# EAGLE library part TLC5947 (library vibhud)
TI TLC5947 24-channel 12-bit constant current PWM driver The TLC5947 is a 24-channel, constant-current sink LED driver. Each channel is individually adjustable with 4096 pulse-width modulated (PWM) steps. PWM control is repeated automatically with the programmed grayscale (GS) data. GS data are written via a serial interface port. The current value of all 24 channels is set by a single external resistor. The TLC5947 has a thermal shutdown (TSD) function that turns off all output drivers during an over-temperature condition. All of the output drivers automatically restart when the temperature returns to normal conditions. SparkFun Products: [PRODUCT 1] <[PRODUCT1LINK]>
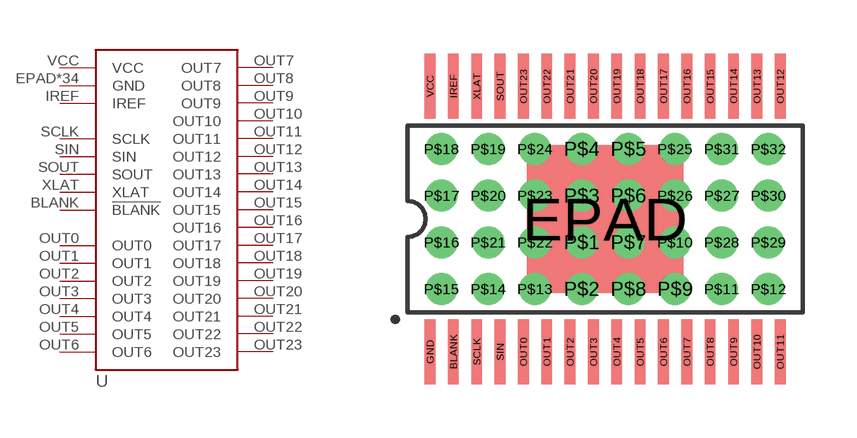
[diagram p17: symbol with the pads of HTSSOP32; footprint HTSSOP32]

Designator prefix -

## TLC5947 (PROD_ID: IC-13817)  [HTSSOP32]
BLANK  !BLANK
EPAD  GND  pwr
GND  GND  pwr
IREF  IREF
OUT0  OUT0  out
OUT1  OUT1  out
OUT2  OUT2  out
OUT3  OUT3  out
OUT4  OUT4  out
OUT5  OUT5  out
OUT6  OUT6  out
OUT7  OUT7  out
OUT8  OUT8  out
OUT9  OUT9  out
OUT10  OUT10  out
OUT11  OUT11  out
OUT12  OUT12  out
OUT13  OUT13  out
OUT14  OUT14  out
OUT15  OUT15  out
OUT16  OUT16  out
OUT17  OUT17  out
OUT18  OUT18  out
OUT19  OUT19  out
OUT20  OUT20  out
OUT21  OUT21  out
OUT22  OUT22  out
OUT23  OUT23  out
P$1  GND  pwr
P$2  GND  pwr
P$3  GND  pwr
P$4  GND  pwr
P$5  GND  pwr
P$6  GND  pwr
P$7  GND  pwr
P$8  GND  pwr
P$9  GND  pwr
P$10  GND  pwr
P$11  GND  pwr
P$12  GND  pwr
P$13  GND  pwr
P$14  GND  pwr
P$15  GND  pwr
P$16  GND  pwr
P$17  GND  pwr
P$18  GND  pwr
P$19  GND  pwr
P$20  GND  pwr
P$21  GND  pwr
P$22  GND  pwr
P$23  GND  pwr
P$24  GND  pwr
P$25  GND  pwr
P$26  GND  pwr
P$27  GND  pwr
P$28  GND  pwr
P$29  GND  pwr
P$30  GND  pwr
P$31  GND  pwr
P$32  GND  pwr
SCLK  SCLK
SIN  SIN
SOUT  SOUT
VCC  VCC  pwr
XLAT  XLAT

## Footprint HTSSOP32 (pad centres in mm)
[HTSSOP-32] - [Package for the TLC5947 PWM driver] Specifications: Pin count: [32] Pin pitch: [0.65 mm] Area: [11.00 mm x 6.20 mm] Datasheet referenced for footprint <http://www.ti.com/lit/ds/symlink/tlc5947.pdf> Example device(s): [TLC5947]
smd 0.3 x 1.8: BLANK -4.225,-3.7; GND -4.875,-3.7; IREF -4.225,3.7; OUT0 -2.275,-3.7; OUT1 -1.625,-3.7; OUT2 -0.975,-3.7; OUT3 -0.325,-3.7; OUT4 0.325,-3.7; OUT5 0.975,-3.7; OUT6 1.625,-3.7; OUT7 2.275,-3.7; OUT8 2.925,-3.7; OUT9 3.575,-3.7; OUT10 4.225,-3.7; OUT11 4.875,-3.7; OUT12 4.875,3.7; OUT13 4.225,3.7; OUT14 3.575,3.7; OUT15 2.925,3.7; OUT16 2.275,3.7; OUT17 1.625,3.7; OUT18 0.975,3.7; OUT19 0.325,3.7; OUT20 -0.325,3.7; OUT21 -0.975,3.7; OUT22 -1.625,3.7; OUT23 -2.275,3.7; SCLK -3.575,-3.7; SIN -2.925,-3.7; SOUT -2.925,3.7; VCC -4.875,3.7; XLAT -3.575,3.7
smd 4.36 x 4.11: EPAD 0,0
drill 0.381: P$1 -0.65,-0.65; P$2 -0.65,-1.95; P$3 -0.65,0.65; P$4 -0.65,1.95; P$5 0.65,1.95; P$6 0.65,0.65; P$7 0.65,-0.65; P$8 0.65,-1.95; P$9 1.95,-1.95; P$10 1.95,-0.65; P$11 3.25,-1.95; P$12 4.55,-1.95; P$13 -1.95,-1.95; P$14 -3.25,-1.95; P$15 -4.55,-1.95; P$16 -4.55,-0.65; P$17 -4.55,0.65; P$18 -4.55,1.95; P$19 -3.25,1.95; P$20 -3.25,0.65; P$21 -3.25,-0.65; P$22 -1.95,-0.65; P$23 -1.95,0.65; P$24 -1.95,1.95; P$25 1.95,1.95; P$26 1.95,0.65; P$27 3.25,0.65; P$28 3.25,-0.65; P$29 4.55,-0.65; P$30 4.55,0.65; P$31 3.25,1.95; P$32 4.55,1.95